# EAGLE library part ETHERNET_JACK_LEDS (library anykey)
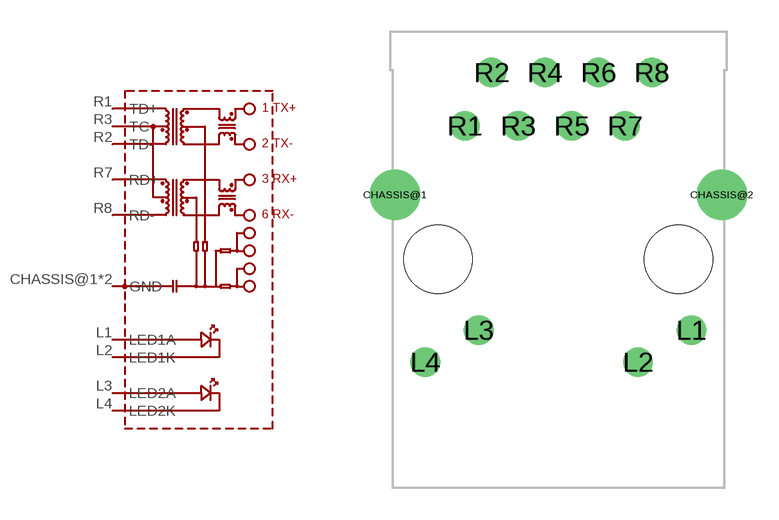
[diagram p49: symbol with the pads of RJ45-RB1-125BAG1A; footprint RJ45-RB1-125BAG1A]

Designator prefix -

## ETHERNET_JACK_LEDSRB1-125BAG1A  [RJ45-RB1-125BAG1A]
CHASSIS@1  GND
CHASSIS@2  GND
L1  LED1A
L2  LED1K
L3  LED2A
L4  LED2K
R1  TD+
R2  TD-
R3  TC
R7  RD+
R8  RD-

## Footprint RJ45-RB1-125BAG1A (pad centres in mm)
Wiznet RB1-125BAG1A RJ45 Jack with magnetics, Bob Smith termination and two LEDs
drill 1.6: CHASSIS@1 -7.775,3.05; CHASSIS@2 7.775,3.05
drill 0.9: L1 6.325,-3.38; L2 3.785,-4.9; L3 -3.785,-3.38; L4 -6.325,-4.9; R1 -4.445,6.34; R2 -3.175,8.88; R3 -1.905,6.34; R4 -0.635,8.88; R5 0.635,6.34; R6 1.905,8.88; R7 3.175,6.34; R8 4.445,8.88
hole 3.25 at -5.715,0
hole 3.25 at 5.715,0